# EAGLE library part 693022010811 (library Input Output Connectors)
CONN SMART CARD Manufacturer's datasheet <https://katalog.we-online.de/em/datasheet/693022010811.pdf>
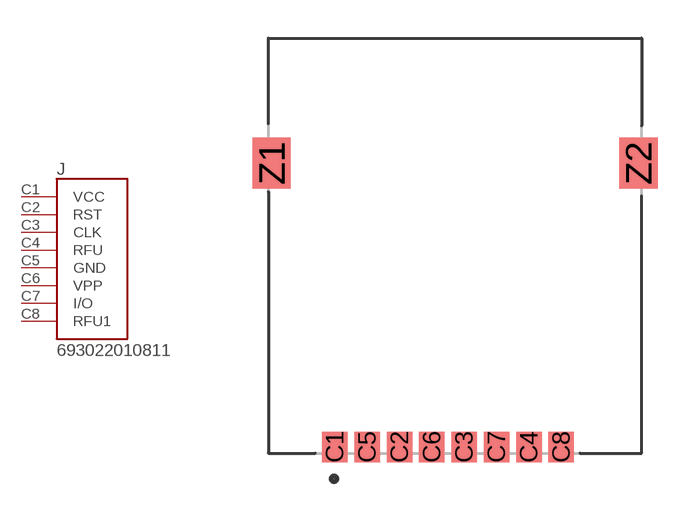
[diagram p3: symbol with the pads of 693022010811; footprint 693022010811]

Designator prefix J

## 693022010811 (CREATED_BY: PCBLayout.com; DIGIKEY_PART_NO: 732-5957-2-ND; MANUFACTURER: Wurth Electronics Inc.; MPN: 693022010811)  [693022010811]
C1  VCC  pwr
C2  RST  in
C3  CLK  in
C4  RFU  pas
C5  GND  pwr
C6  VPP  pwr
C7  I/O
C8  RFU1  pas

## Footprint 693022010811 (pad centres in mm)
smd 1 x 1.2: C1 -4.72,0; C2 -2.18,0; C3 0.36,0; C4 2.9,0; C5 -3.45,0; C6 -0.91,0; C7 1.63,0; C8 4.17,0
smd 1.5 x 2: Z1 -7.2,11.15; Z2 7.2,11.15